# Altium footprint library PIC_Board 2.PcbLib: 8 footprints
Each footprint in its own frame and in the unit in brackets; x right, y up, seen from the top. Pads: shape width x height; smd on the part's side, far side on the other; paste and mask are expansions set on the pad; w line width, h text height; cw(c..) or ccw(c..) is an arc to the next point about the centre after c.
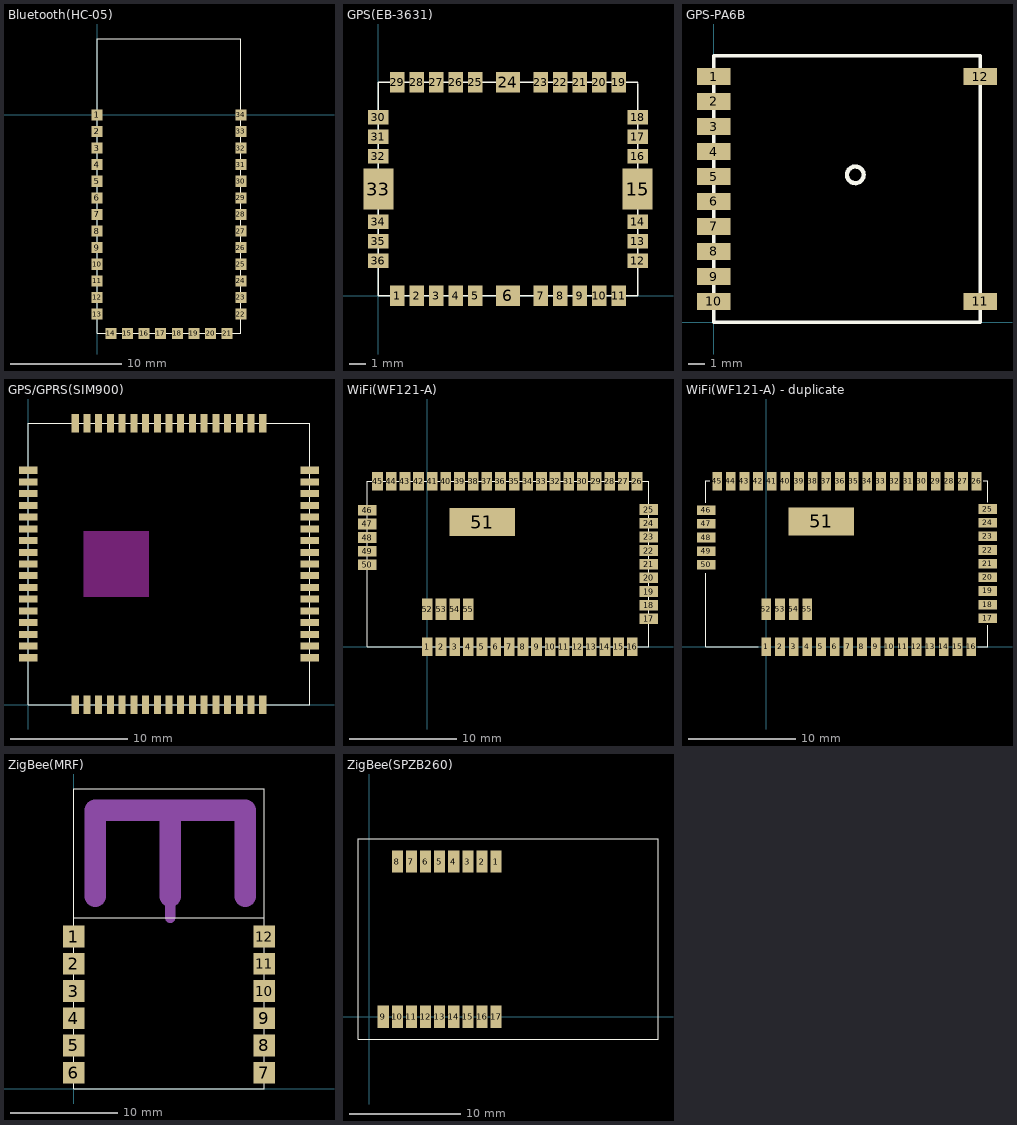
[diagram p0: the footprints below, top view; thin cyan lines are the x and y axes]

## Bluetooth(HC-05) [mm]
pads (34):
  rect 1x1 smd: 1(0,0) 2(0,-1.5) 3(0,-3) 4(0,-4.5) 5(0,-6) 6(0,-7.5) 7(0,-9) 8(0,-10.5) 9(0,-12) 10(0,-13.5) 11(0,-15) 12(0,-16.5) 13(0,-18) 14(1.25,-19.75) 15(2.75,-19.75) 16(4.25,-19.75) 17(5.75,-19.75) 18(7.25,-19.75) 19(8.75,-19.75) 20(10.25,-19.75) 21(11.75,-19.75) 22(13,-18) 23(13,-16.5) 24(13,-15) 25(13,-13.5) 26(13,-12) 27(13,-10.5) 28(13,-9) 29(13,-7.5) 30(13,-6) 31(13,-4.5) 32(13,-3) 33(13,-1.5) 34(13,0)
Top Overlay:
  lines w0.1: 0,-19.75 0,6.85 13,6.85 13,-19.75 0,-19.75
3D body: height 2, standoff 1, extent 5,-10.55 12,-4.45
3D body: height 2, standoff 1, extent 5.7,-18.05 11.8,-13.45
3D body: height 1, standoff 0, extent 0,-19.75 13,6.85

## GPS(EB-3631) [mm]
pads (36):
  rect 0.9x1.25 smd: 1(1.15,0) 2(2.35,0) 3(3.55,0) 4(4.75,0) 5(5.95,0) 7(9.95,0) 8(11.15,0) 9(12.35,0) 10(13.55,0) 11(14.75,0) 19(14.75,13.1) 20(13.55,13.1) 21(12.35,13.1) 22(11.15,13.1) 23(9.95,13.1) 25(5.95,13.1) 26(4.75,13.1) 27(3.55,13.1) 28(2.35,13.1) 29(1.15,13.1)
  rect 1.5x1.25 smd: 6(7.95,0) 24(7.95,13.1)
  rect 1.25x0.9 smd: 12(15.9,2.15) 13(15.9,3.35) 14(15.9,4.55) 16(15.9,8.55) 17(15.9,9.75) 18(15.9,10.95) 30(0,10.95) 31(0,9.75) 32(0,8.55) 34(0,4.55) 35(0,3.35) 36(0,2.15)
  rect 1.85x2.5 smd: 15(15.9,6.55) 33(0,6.55)
Top Overlay:
  lines w0.1: 15.9,13 15.9,0 0,0 0,13.1 15.9,13.1
3D body: height 3, standoff 0, extent 0,0 15.9,13.1

## GPS-PA6B [mm]
pads (12):
  rect 2x1 smd: 1(0,14.75) 2(0,13.25) 3(0,11.75) 4(0,10.25) 5(0,8.75) 6(0,7.25) 7(0,5.75) 8(0,4.25) 9(0,2.75) 10(0,1.25) 11(16,1.25) 12(16,14.75)
Top Overlay:
  circle w0.254: c8.5,8.85 r0.5
  lines w0.2: 0,0 0,16 16,16 16,0 0,0
3D body: height 6, standoff 0, extent 0,0 16,16

## GPS/GPRS(SIM900) [mm]
pads (68):
  rect 1.6x0.6 smd: 1(0,20) 2(0,19) 3(0,18) 4(0,17) 5(0,16) 6(0,15) 7(0,14) 8(0,13) 9(0,12) 10(0,11) 11(0,10) 12(0,9) 13(0,8) 14(0,7) 15(0,6) 16(0,5) 17(0,4) 35(24,4) 36(24,5) 37(24,6) 38(24,7) 39(24,8) 40(24,9) 41(24,10) 42(24,11) 43(24,12) 44(24,13) 45(24,14) 46(24,15) 47(24,16) 48(24,17) 49(24,18) 50(24,19) 51(24,20)
  rect 0.6x1.6 smd: 18(4,0) 19(5,0) 20(6,0) 21(7,0) 22(8,0) 23(9,0) 24(10,0) 25(11,0) 26(12,0) 27(13,0) 28(14,0) 29(15,0) 30(16,0) 31(17,0) 32(18,0) 33(19,0) 34(20,0) 52(20,24) 53(19,24) 54(18,24) 55(17,24) 56(16,24) 57(15,24) 58(14,24) 59(13,24) 60(12,24) 61(11,24) 62(10,24) 63(9,24) 64(8,24) 65(7,24) 66(6,24) 67(5,24) 68(4,24)
Top Overlay:
  lines w0.1: 0,0 0,24 24,24 24,0 0,0
Keep-Out Layer:
  rectangle: 4.7,9.2 10.3,14.8
3D body: height 3, standoff 0, extent 0,0 24,24

## WiFi(WF121-A) [mm]
pads (55):
  rect 1x1.7 smd: 1(0,0) 2(1.27,0) 3(2.54,0) 4(3.81,0) 5(5.08,0) 6(6.35,0) 7(7.62,0) 8(8.89,0) 9(10.16,0) 10(11.43,0) 11(12.7,0) 12(13.97,0) 13(15.24,0) 14(16.51,0) 15(17.78,0) 16(19.05,0) 26(19.5,15.4) 27(18.23,15.4) 28(16.96,15.4) 29(15.69,15.4) 30(14.42,15.4) 31(13.15,15.4) 32(11.88,15.4) 33(10.61,15.4) 34(9.34,15.4) 35(8.07,15.4) 36(6.8,15.4) 37(5.53,15.4) 38(4.26,15.4) 39(2.99,15.4) 40(1.72,15.4) 41(0.45,15.4) 42(-0.82,15.4) 43(-2.09,15.4) 44(-3.36,15.4) 45(-4.63,15.4)
  rect 1.7x1 smd: 17(20.6,2.6) 18(20.6,3.87) 19(20.6,5.14) 20(20.6,6.41) 21(20.6,7.68) 22(20.6,8.95) 23(20.6,10.22) 24(20.6,11.49) 25(20.6,12.76) 46(-5.6,12.7) 47(-5.6,11.43) 48(-5.6,10.16) 49(-5.6,8.89) 50(-5.6,7.62)
  rect 6.1x2.6 smd: 51(5.1,11.6)
  rect 1x2 smd: 52(0,3.5) 53(1.27,3.5) 54(2.54,3.5) 55(3.81,3.5)
Top Overlay:
  lines w0.1: -5.6,0 -5.6,15.4 20.6,15.4 20.6,0 -5.6,0
3D body: height 3, standoff 0, extent -5.6,0 20.6,15.4

## WiFi(WF121-A) - duplicate [mm]
pads (55):
  rect 0.9x1.7 smd: 1(0,0) 2(1.27,0) 3(2.54,0) 4(3.81,0) 5(5.08,0) 6(6.35,0) 7(7.62,0) 8(8.89,0) 9(10.16,0) 10(11.43,0) 11(12.7,0) 12(13.97,0) 13(15.24,0) 14(16.51,0) 15(17.78,0) 16(19.05,0) 26(19.55,15.4) 27(18.28,15.4) 28(17.01,15.4) 29(15.74,15.4) 30(14.47,15.4) 31(13.2,15.4) 32(11.93,15.4) 33(10.66,15.4) 34(9.39,15.4) 35(8.12,15.4) 36(6.85,15.4) 37(5.58,15.4) 38(4.31,15.4) 39(3.04,15.4) 40(1.77,15.4) 41(0.5,15.4) 42(-0.77,15.4) 43(-2.04,15.4) 44(-3.31,15.4) 45(-4.58,15.4)
  rect 1.7x0.9 smd: 17(20.6,2.65) 18(20.6,3.92) 19(20.6,5.19) 20(20.6,6.46) 21(20.6,7.73) 22(20.6,9) 23(20.6,10.27) 24(20.6,11.54) 25(20.6,12.81) 46(-5.6,12.7) 47(-5.6,11.43) 48(-5.6,10.16) 49(-5.6,8.89) 50(-5.6,7.62)
  rect 6.1x2.6 smd: 51(5.1,11.66)
  rect 0.9x2 smd: 52(0,3.5) 53(1.27,3.5) 54(2.54,3.5) 55(3.81,3.5)
Top Overlay:
  lines w0.1: -5.65,13.375 -5.65,15.45 -5.25,15.45 ; -5.625,6.85 -5.625,0 -0.75,0 ; 19.675,0 20.6,0 20.6,2 ; 20.175,15.45 20.6,15.45 20.6,13.45
3D body: height 3, standoff 0, extent -5.63,0 20.6,15.46

## ZigBee(MRF) [mil]
pads (12):
  rect 80x80 smd: 1(0,560) 2(0,460) 3(0,360) 4(0,260) 5(0,160) 6(0,60) 7(700,60) 8(700,160) 9(700,260) 10(700,360) 11(700,460) 12(700,560)
Top Overlay:
  lines w1.97: 0,629.92 700,629.92 ; 0,0 700,0 700,1102.36 0,1102.36 0,0
Mechanical 1:
  lines w39.37: 354.33,629.92 354.33,708.66
  lines w78.74: 78.74,708.66 78.74,1023.62 629.92,1023.62 629.92,708.66 ; 354.33,708.66 354.33,1023.62
3D body: height 78.74, standoff 0, extent 0,0 700,1100

## ZigBee(SPZB260) [mm]
pads (17):
  rect 1x2 smd: 1(11.43,13.97) 2(10.16,13.97) 3(8.89,13.97) 4(7.62,13.97) 5(6.35,13.97) 6(5.08,13.97) 7(3.81,13.97) 8(2.54,13.97) 9(1.27,0) 10(2.54,0) 11(3.81,0) 12(5.08,0) 13(6.35,0) 14(7.62,0) 15(8.89,0) 16(10.16,0) 17(11.43,0)
Top Overlay:
  lines w0.1: -1,-2 26,-2 26,8 26,16 -1,16 -1,-2